# Altium schematic symbol library Converter_DCDC.SchLib: 947 symbols (part 11 of 12)
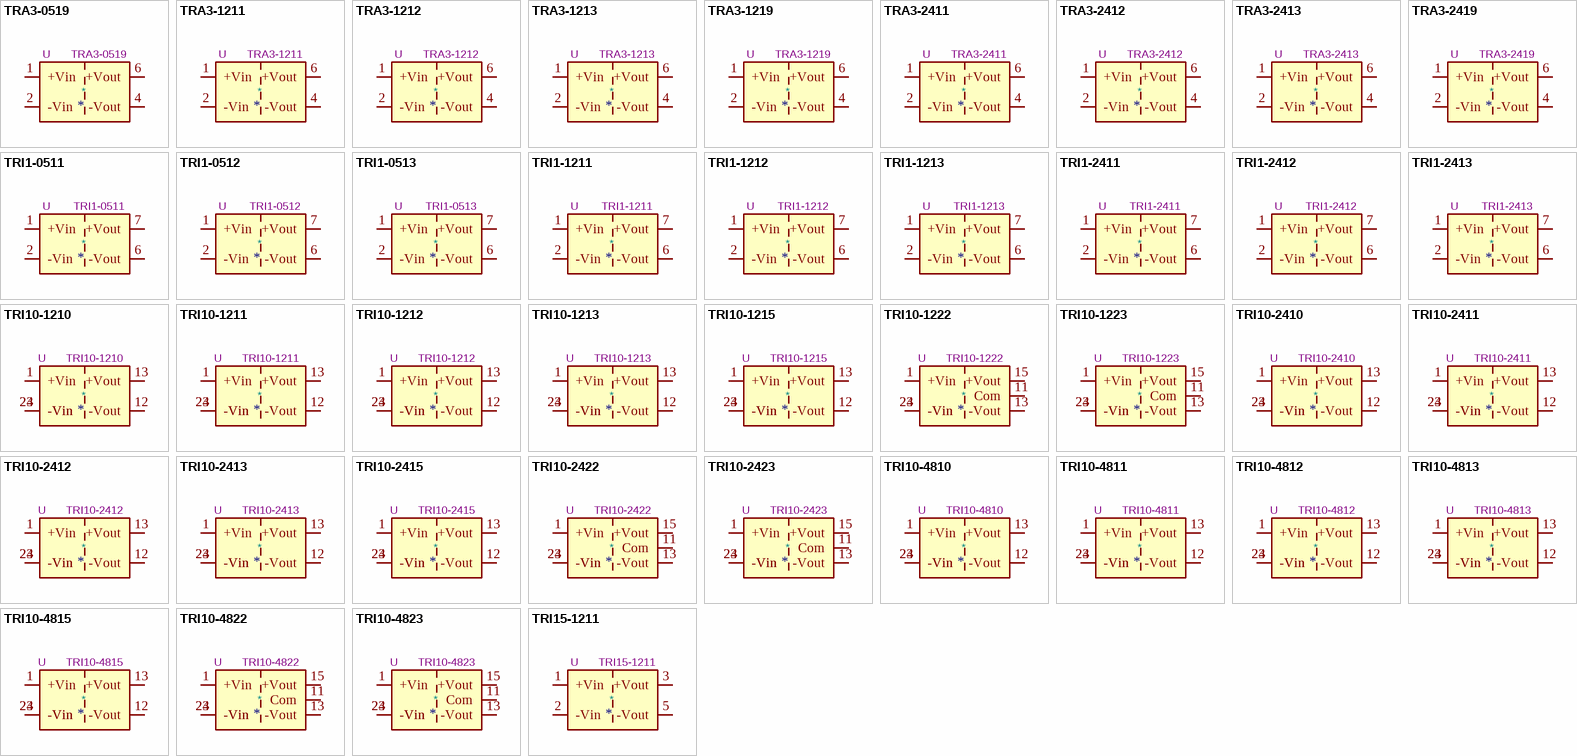
[diagram p33: symbols TRA3-0519 to TRI15-1211]

## TRI1-0512
designator *  value TRI1-0512  Reference: U
1W DC/DC converter unregulated, 4.5-5.5V input, 12V fixed output voltage, 84mA output, 3.0kVDC isolation, SIP-7; ki_keywords: Traco isolated isolation dc-dc converter not-regulated non-regulated single 1W; ki_fp_filters: Converter*DCDC*TRACO*TRI1*; Footprint: Converter_DCDC:Converter_DCDC_TRACO_TRI1-xxxx_THT; Datasheet: https://www.tracopower.com/products/tri1.pdf; Description_: 1W DC/DC converter unregulated, 4.5-5.5V input, 12V fixed output voltage, 84mA output, 3.0kVDC isolation, SIP-7
pins: 1 +Vin, 2 -Vin, 6 -Vout, 7 +Vout

## TRI1-0513
designator *  value TRI1-0513  Reference: U
1W DC/DC converter unregulated, 4.5-5.5V input, 15V fixed output voltage, 68mA output, 3.0kVDC isolation, SIP-7; ki_keywords: Traco isolated isolation dc-dc converter not-regulated non-regulated single 1W; ki_fp_filters: Converter*DCDC*TRACO*TRI1*; Footprint: Converter_DCDC:Converter_DCDC_TRACO_TRI1-xxxx_THT; Datasheet: https://www.tracopower.com/products/tri1.pdf; Description_: 1W DC/DC converter unregulated, 4.5-5.5V input, 15V fixed output voltage, 68mA output, 3.0kVDC isolation, SIP-7
pins: 1 +Vin, 2 -Vin, 6 -Vout, 7 +Vout

## TRI1-1211
designator *  value TRI1-1211  Reference: U
1W DC/DC converter unregulated, 10.8-13.2V input, 5V fixed output voltage, 200mA output, 3.0kVDC isolation, SIP-7; ki_keywords: Traco isolated isolation dc-dc converter not-regulated non-regulated single 1W; ki_fp_filters: Converter*DCDC*TRACO*TRI1*; Footprint: Converter_DCDC:Converter_DCDC_TRACO_TRI1-xxxx_THT; Datasheet: https://www.tracopower.com/products/tri1.pdf; Description_: 1W DC/DC converter unregulated, 10.8-13.2V input, 5V fixed output voltage, 200mA output, 3.0kVDC isolation, SIP-7
pins: 1 +Vin, 2 -Vin, 6 -Vout, 7 +Vout

## TRI1-1212
designator *  value TRI1-1212  Reference: U
1W DC/DC converter unregulated, 10.8-13.2V input, 12V fixed output voltage, 84mA output, 3.0kVDC isolation, SIP-7; ki_keywords: Traco isolated isolation dc-dc converter not-regulated non-regulated single 1W; ki_fp_filters: Converter*DCDC*TRACO*TRI1*; Footprint: Converter_DCDC:Converter_DCDC_TRACO_TRI1-xxxx_THT; Datasheet: https://www.tracopower.com/products/tri1.pdf; Description_: 1W DC/DC converter unregulated, 10.8-13.2V input, 12V fixed output voltage, 84mA output, 3.0kVDC isolation, SIP-7
pins: 1 +Vin, 2 -Vin, 6 -Vout, 7 +Vout

## TRI1-1213
designator *  value TRI1-1213  Reference: U
1W DC/DC converter unregulated, 10.8-13.2V input, 15V fixed output voltage, 68mA output, 3.0kVDC isolation, SIP-7; ki_keywords: Traco isolated isolation dc-dc converter not-regulated non-regulated single 1W; ki_fp_filters: Converter*DCDC*TRACO*TRI1*; Footprint: Converter_DCDC:Converter_DCDC_TRACO_TRI1-xxxx_THT; Datasheet: https://www.tracopower.com/products/tri1.pdf; Description_: 1W DC/DC converter unregulated, 10.8-13.2V input, 15V fixed output voltage, 68mA output, 3.0kVDC isolation, SIP-7
pins: 1 +Vin, 2 -Vin, 6 -Vout, 7 +Vout

## TRI1-2411
designator *  value TRI1-2411  Reference: U
1W DC/DC converter unregulated, 21.6-26.4V input, 5V fixed output voltage, 200mA output, 3.0kVDC isolation, SIP-7; ki_keywords: Traco isolated isolation dc-dc converter not-regulated non-regulated single 1W; ki_fp_filters: Converter*DCDC*TRACO*TRI1*; Footprint: Converter_DCDC:Converter_DCDC_TRACO_TRI1-xxxx_THT; Datasheet: https://www.tracopower.com/products/tri1.pdf; Description_: 1W DC/DC converter unregulated, 21.6-26.4V input, 5V fixed output voltage, 200mA output, 3.0kVDC isolation, SIP-7
pins: 1 +Vin, 2 -Vin, 6 -Vout, 7 +Vout

## TRI1-2412
designator *  value TRI1-2412  Reference: U
1W DC/DC converter unregulated, 21.6-26.4V input, 12V fixed output voltage, 84mA output, 3.0kVDC isolation, SIP-7; ki_keywords: Traco isolated isolation dc-dc converter not-regulated non-regulated single 1W; ki_fp_filters: Converter*DCDC*TRACO*TRI1*; Footprint: Converter_DCDC:Converter_DCDC_TRACO_TRI1-xxxx_THT; Datasheet: https://www.tracopower.com/products/tri1.pdf; Description_: 1W DC/DC converter unregulated, 21.6-26.4V input, 12V fixed output voltage, 84mA output, 3.0kVDC isolation, SIP-7
pins: 1 +Vin, 2 -Vin, 6 -Vout, 7 +Vout

## TRI1-2413
designator *  value TRI1-2413  Reference: U
1W DC/DC converter unregulated, 21.6-26.4V input, 15V fixed output voltage, 68mA output, 3.0kVDC isolation, SIP-7; ki_keywords: Traco isolated isolation dc-dc converter not-regulated non-regulated single 1W; ki_fp_filters: Converter*DCDC*TRACO*TRI1*; Footprint: Converter_DCDC:Converter_DCDC_TRACO_TRI1-xxxx_THT; Datasheet: https://www.tracopower.com/products/tri1.pdf; Description_: 1W DC/DC converter unregulated, 21.6-26.4V input, 15V fixed output voltage, 68mA output, 3.0kVDC isolation, SIP-7
pins: 1 +Vin, 2 -Vin, 6 -Vout, 7 +Vout

## TRI10-1210
designator *  value TRI10-1210  Reference: U
10W DC/DC industrial converter regulated, 9-18V input, 3.3V fixed output voltage, 2.7A output, 5.0kVAC isolation, DIP-24; ki_keywords: Traco isolated single; ki_fp_filters: Converter*DCDC*TRACO*TRI10*Single*THT*; Footprint: Converter_DCDC:Converter_DCDC_TRACO_TRI10_Single_THT; Datasheet: https://www.tracopower.com/products/tri10.pdf; Description_: 10W DC/DC industrial converter regulated, 9-18V input, 3.3V fixed output voltage, 2.7A output, 5.0kVAC isolation, DIP-24
pins: 1 +Vin, 12 -Vout, 13 +Vout, 23 -Vin, 24 -Vin

## TRI10-1211
designator *  value TRI10-1211  Reference: U
10W DC/DC industrial converter regulated, 9-18V input, 5.1V fixed output voltage, 2A output, 5.0kVAC isolation, DIP-24; ki_keywords: Traco isolated single; ki_fp_filters: Converter*DCDC*TRACO*TRI10*Single*THT*; Footprint: Converter_DCDC:Converter_DCDC_TRACO_TRI10_Single_THT; Datasheet: https://www.tracopower.com/products/tri10.pdf; Description_: 10W DC/DC industrial converter regulated, 9-18V input, 5.1V fixed output voltage, 2A output, 5.0kVAC isolation, DIP-24
pins: 1 +Vin, 12 -Vout, 13 +Vout, 23 -Vin, 24 -Vin

## TRI10-1212
designator *  value TRI10-1212  Reference: U
10W DC/DC industrial converter regulated, 9-18V input, 12V fixed output voltage, 833mA output, 5.0kVAC isolation, DIP-24; ki_keywords: Traco isolated single; ki_fp_filters: Converter*DCDC*TRACO*TRI10*Single*THT*; Footprint: Converter_DCDC:Converter_DCDC_TRACO_TRI10_Single_THT; Datasheet: https://www.tracopower.com/products/tri10.pdf; Description_: 10W DC/DC industrial converter regulated, 9-18V input, 12V fixed output voltage, 833mA output, 5.0kVAC isolation, DIP-24
pins: 1 +Vin, 12 -Vout, 13 +Vout, 23 -Vin, 24 -Vin

## TRI10-1213
designator *  value TRI10-1213  Reference: U
10W DC/DC industrial converter regulated, 9-18V input, 15V fixed output voltage, 666mA output, 5.0kVAC isolation, DIP-24; ki_keywords: Traco isolated single; ki_fp_filters: Converter*DCDC*TRACO*TRI10*Single*THT*; Footprint: Converter_DCDC:Converter_DCDC_TRACO_TRI10_Single_THT; Datasheet: https://www.tracopower.com/products/tri10.pdf; Description_: 10W DC/DC industrial converter regulated, 9-18V input, 15V fixed output voltage, 666mA output, 5.0kVAC isolation, DIP-24
pins: 1 +Vin, 12 -Vout, 13 +Vout, 23 -Vin, 24 -Vin

## TRI10-1215
designator *  value TRI10-1215  Reference: U
10W DC/DC industrial converter regulated, 9-18V input, 24V fixed output voltage, 416mA output, 5.0kVAC isolation, DIP-24; ki_keywords: Traco isolated single; ki_fp_filters: Converter*DCDC*TRACO*TRI10*Single*THT*; Footprint: Converter_DCDC:Converter_DCDC_TRACO_TRI10_Single_THT; Datasheet: https://www.tracopower.com/products/tri10.pdf; Description_: 10W DC/DC industrial converter regulated, 9-18V input, 24V fixed output voltage, 416mA output, 5.0kVAC isolation, DIP-24
pins: 1 +Vin, 12 -Vout, 13 +Vout, 23 -Vin, 24 -Vin

## TRI10-1222
designator *  value TRI10-1222  Reference: U
10W DC/DC industrial converter regulated, 9-18V input, ±12V fixed output voltage, 416mA each output, 5.0kVAC isolation, DIP-24; ki_keywords: Traco isolated dual; ki_fp_filters: Converter*DCDC*TRACO*TRI10*Dual*THT*; Footprint: Converter_DCDC:Converter_DCDC_TRACO_TRI10_Dual_THT; Datasheet: https://www.tracopower.com/products/tri10.pdf; Description_: 10W DC/DC industrial converter regulated, 9-18V input, ±12V fixed output voltage, 416mA each output, 5.0kVAC isolation, DIP-24
pins: 1 +Vin, 11 Com, 13 -Vout, 15 +Vout, 23 -Vin, 24 -Vin

## TRI10-1223
designator *  value TRI10-1223  Reference: U
10W DC/DC industrial converter regulated, 9-18V input, ±15V fixed output voltage, 333mA each output, 5.0kVAC isolation, DIP-24; ki_keywords: Traco isolated dual; ki_fp_filters: Converter*DCDC*TRACO*TRI10*Dual*THT*; Footprint: Converter_DCDC:Converter_DCDC_TRACO_TRI10_Dual_THT; Datasheet: https://www.tracopower.com/products/tri10.pdf; Description_: 10W DC/DC industrial converter regulated, 9-18V input, ±15V fixed output voltage, 333mA each output, 5.0kVAC isolation, DIP-24
pins: 1 +Vin, 11 Com, 13 -Vout, 15 +Vout, 23 -Vin, 24 -Vin

## TRI10-2410
designator *  value TRI10-2410  Reference: U
10W DC/DC industrial converter regulated, 18-36V input, 3.3V fixed output voltage, 2.7A output, 5.0kVAC isolation, DIP-24; ki_keywords: Traco isolated single; ki_fp_filters: Converter*DCDC*TRACO*TRI10*Single*THT*; Footprint: Converter_DCDC:Converter_DCDC_TRACO_TRI10_Single_THT; Datasheet: https://www.tracopower.com/products/tri10.pdf; Description_: 10W DC/DC industrial converter regulated, 18-36V input, 3.3V fixed output voltage, 2.7A output, 5.0kVAC isolation, DIP-24
pins: 1 +Vin, 12 -Vout, 13 +Vout, 23 -Vin, 24 -Vin

## TRI10-2411
designator *  value TRI10-2411  Reference: U
10W DC/DC industrial converter regulated, 18-36V input, 5.1V fixed output voltage, 2A output, 5.0kVAC isolation, DIP-24; ki_keywords: Traco isolated single; ki_fp_filters: Converter*DCDC*TRACO*TRI10*Single*THT*; Footprint: Converter_DCDC:Converter_DCDC_TRACO_TRI10_Single_THT; Datasheet: https://www.tracopower.com/products/tri10.pdf; Description_: 10W DC/DC industrial converter regulated, 18-36V input, 5.1V fixed output voltage, 2A output, 5.0kVAC isolation, DIP-24
pins: 1 +Vin, 12 -Vout, 13 +Vout, 23 -Vin, 24 -Vin

## TRI10-2412
designator *  value TRI10-2412  Reference: U
10W DC/DC industrial converter regulated, 18-36V input, 12V fixed output voltage, 833mA output, 5.0kVAC isolation, DIP-24; ki_keywords: Traco isolated single; ki_fp_filters: Converter*DCDC*TRACO*TRI10*Single*THT*; Footprint: Converter_DCDC:Converter_DCDC_TRACO_TRI10_Single_THT; Datasheet: https://www.tracopower.com/products/tri10.pdf; Description_: 10W DC/DC industrial converter regulated, 18-36V input, 12V fixed output voltage, 833mA output, 5.0kVAC isolation, DIP-24
pins: 1 +Vin, 12 -Vout, 13 +Vout, 23 -Vin, 24 -Vin

## TRI10-2413
designator *  value TRI10-2413  Reference: U
10W DC/DC industrial converter regulated, 18-36V input, 15V fixed output voltage, 666mA output, 5.0kVAC isolation, DIP-24; ki_keywords: Traco isolated single; ki_fp_filters: Converter*DCDC*TRACO*TRI10*Single*THT*; Footprint: Converter_DCDC:Converter_DCDC_TRACO_TRI10_Single_THT; Datasheet: https://www.tracopower.com/products/tri10.pdf; Description_: 10W DC/DC industrial converter regulated, 18-36V input, 15V fixed output voltage, 666mA output, 5.0kVAC isolation, DIP-24
pins: 1 +Vin, 12 -Vout, 13 +Vout, 23 -Vin, 24 -Vin

## TRI10-2415
designator *  value TRI10-2415  Reference: U
10W DC/DC industrial converter regulated, 18-36V input, 24V fixed output voltage, 416mA output, 5.0kVAC isolation, DIP-24; ki_keywords: Traco isolated single; ki_fp_filters: Converter*DCDC*TRACO*TRI10*Single*THT*; Footprint: Converter_DCDC:Converter_DCDC_TRACO_TRI10_Single_THT; Datasheet: https://www.tracopower.com/products/tri10.pdf; Description_: 10W DC/DC industrial converter regulated, 18-36V input, 24V fixed output voltage, 416mA output, 5.0kVAC isolation, DIP-24
pins: 1 +Vin, 12 -Vout, 13 +Vout, 23 -Vin, 24 -Vin

## TRI10-2422
designator *  value TRI10-2422  Reference: U
10W DC/DC industrial converter regulated, 18-36V input, ±12V fixed output voltage, 416mA each output, 5.0kVAC isolation, DIP-24; ki_keywords: Traco isolated dual; ki_fp_filters: Converter*DCDC*TRACO*TRI10*Dual*THT*; Footprint: Converter_DCDC:Converter_DCDC_TRACO_TRI10_Dual_THT; Datasheet: https://www.tracopower.com/products/tri10.pdf; Description_: 10W DC/DC industrial converter regulated, 18-36V input, ±12V fixed output voltage, 416mA each output, 5.0kVAC isolation, DIP-24
pins: 1 +Vin, 11 Com, 13 -Vout, 15 +Vout, 23 -Vin, 24 -Vin

## TRI10-2423
designator *  value TRI10-2423  Reference: U
10W DC/DC industrial converter regulated, 18-36V input, ±15V fixed output voltage, 333mA each output, 5.0kVAC isolation, DIP-24; ki_keywords: Traco isolated dual; ki_fp_filters: Converter*DCDC*TRACO*TRI10*Dual*THT*; Footprint: Converter_DCDC:Converter_DCDC_TRACO_TRI10_Dual_THT; Datasheet: https://www.tracopower.com/products/tri10.pdf; Description_: 10W DC/DC industrial converter regulated, 18-36V input, ±15V fixed output voltage, 333mA each output, 5.0kVAC isolation, DIP-24
pins: 1 +Vin, 11 Com, 13 -Vout, 15 +Vout, 23 -Vin, 24 -Vin

## TRI10-4810
designator *  value TRI10-4810  Reference: U
10W DC/DC industrial converter regulated, 36-75V input, 3.3V fixed output voltage, 2.7A output, 5.0kVAC isolation, DIP-24; ki_keywords: Traco isolated single; ki_fp_filters: Converter*DCDC*TRACO*TRI10*Single*THT*; Footprint: Converter_DCDC:Converter_DCDC_TRACO_TRI10_Single_THT; Datasheet: https://www.tracopower.com/products/tri10.pdf; Description_: 10W DC/DC industrial converter regulated, 36-75V input, 3.3V fixed output voltage, 2.7A output, 5.0kVAC isolation, DIP-24
pins: 1 +Vin, 12 -Vout, 13 +Vout, 23 -Vin, 24 -Vin

## TRI10-4811
designator *  value TRI10-4811  Reference: U
10W DC/DC industrial converter regulated, 36-75V input, 5.1V fixed output voltage, 2A output, 5.0kVAC isolation, DIP-24; ki_keywords: Traco isolated single; ki_fp_filters: Converter*DCDC*TRACO*TRI10*Single*THT*; Footprint: Converter_DCDC:Converter_DCDC_TRACO_TRI10_Single_THT; Datasheet: https://www.tracopower.com/products/tri10.pdf; Description_: 10W DC/DC industrial converter regulated, 36-75V input, 5.1V fixed output voltage, 2A output, 5.0kVAC isolation, DIP-24
pins: 1 +Vin, 12 -Vout, 13 +Vout, 23 -Vin, 24 -Vin

## TRI10-4812
designator *  value TRI10-4812  Reference: U
10W DC/DC industrial converter regulated, 36-75V input, 12V fixed output voltage, 833mA output, 5.0kVAC isolation, DIP-24; ki_keywords: Traco isolated single; ki_fp_filters: Converter*DCDC*TRACO*TRI10*Single*THT*; Footprint: Converter_DCDC:Converter_DCDC_TRACO_TRI10_Single_THT; Datasheet: https://www.tracopower.com/products/tri10.pdf; Description_: 10W DC/DC industrial converter regulated, 36-75V input, 12V fixed output voltage, 833mA output, 5.0kVAC isolation, DIP-24
pins: 1 +Vin, 12 -Vout, 13 +Vout, 23 -Vin, 24 -Vin

## TRI10-4813
designator *  value TRI10-4813  Reference: U
10W DC/DC industrial converter regulated, 36-75V input, 15V fixed output voltage, 666mA output, 5.0kVAC isolation, DIP-24; ki_keywords: Traco isolated single; ki_fp_filters: Converter*DCDC*TRACO*TRI10*Single*THT*; Footprint: Converter_DCDC:Converter_DCDC_TRACO_TRI10_Single_THT; Datasheet: https://www.tracopower.com/products/tri10.pdf; Description_: 10W DC/DC industrial converter regulated, 36-75V input, 15V fixed output voltage, 666mA output, 5.0kVAC isolation, DIP-24
pins: 1 +Vin, 12 -Vout, 13 +Vout, 23 -Vin, 24 -Vin

## TRI10-4815
designator *  value TRI10-4815  Reference: U
10W DC/DC industrial converter regulated, 36-75V input, 24V fixed output voltage, 416mA output, 5.0kVAC isolation, DIP-24; ki_keywords: Traco isolated single; ki_fp_filters: Converter*DCDC*TRACO*TRI10*Single*THT*; Footprint: Converter_DCDC:Converter_DCDC_TRACO_TRI10_Single_THT; Datasheet: https://www.tracopower.com/products/tri10.pdf; Description_: 10W DC/DC industrial converter regulated, 36-75V input, 24V fixed output voltage, 416mA output, 5.0kVAC isolation, DIP-24
pins: 1 +Vin, 12 -Vout, 13 +Vout, 23 -Vin, 24 -Vin

## TRI10-4822
designator *  value TRI10-4822  Reference: U
10W DC/DC industrial converter regulated, 36-75V input, ±12V fixed output voltage, 416mA each output, 5.0kVAC isolation, DIP-24; ki_keywords: Traco isolated dual; ki_fp_filters: Converter*DCDC*TRACO*TRI10*Dual*THT*; Footprint: Converter_DCDC:Converter_DCDC_TRACO_TRI10_Dual_THT; Datasheet: https://www.tracopower.com/products/tri10.pdf; Description_: 10W DC/DC industrial converter regulated, 36-75V input, ±12V fixed output voltage, 416mA each output, 5.0kVAC isolation, DIP-24
pins: 1 +Vin, 11 Com, 13 -Vout, 15 +Vout, 23 -Vin, 24 -Vin

## TRI10-4823
designator *  value TRI10-4823  Reference: U
10W DC/DC industrial converter regulated, 36-75V input, ±15V fixed output voltage, 333mA each output, 5.0kVAC isolation, DIP-24; ki_keywords: Traco isolated dual; ki_fp_filters: Converter*DCDC*TRACO*TRI10*Dual*THT*; Footprint: Converter_DCDC:Converter_DCDC_TRACO_TRI10_Dual_THT; Datasheet: https://www.tracopower.com/products/tri10.pdf; Description_: 10W DC/DC industrial converter regulated, 36-75V input, ±15V fixed output voltage, 333mA each output, 5.0kVAC isolation, DIP-24
pins: 1 +Vin, 11 Com, 13 -Vout, 15 +Vout, 23 -Vin, 24 -Vin

## TRI15-1211
designator *  value TRI15-1211  Reference: U
15W DC/DC converter regulated, 9-18V input, 5.1V fixed output voltage, 3A output, reinforced 4.2kVAC isolation, 2"x1"; ki_keywords: Traco isolated single; ki_fp_filters: Converter*DCDC*TRACO*THB10*xxxx*Single*; Footprint: Converter_DCDC:Converter_DCDC_TRACO_THB10-xxxx_Single_THT; Datasheet: https://www.tracopower.com/products/tri15.pdf; Description_: 15W DC/DC converter regulated, 9-18V input, 5.1V fixed output voltage, 3A output, reinforced 4.2kVAC isolation, 2"x1"
pins: 1 +Vin, 2 -Vin, 3 +Vout, 5 -Vout

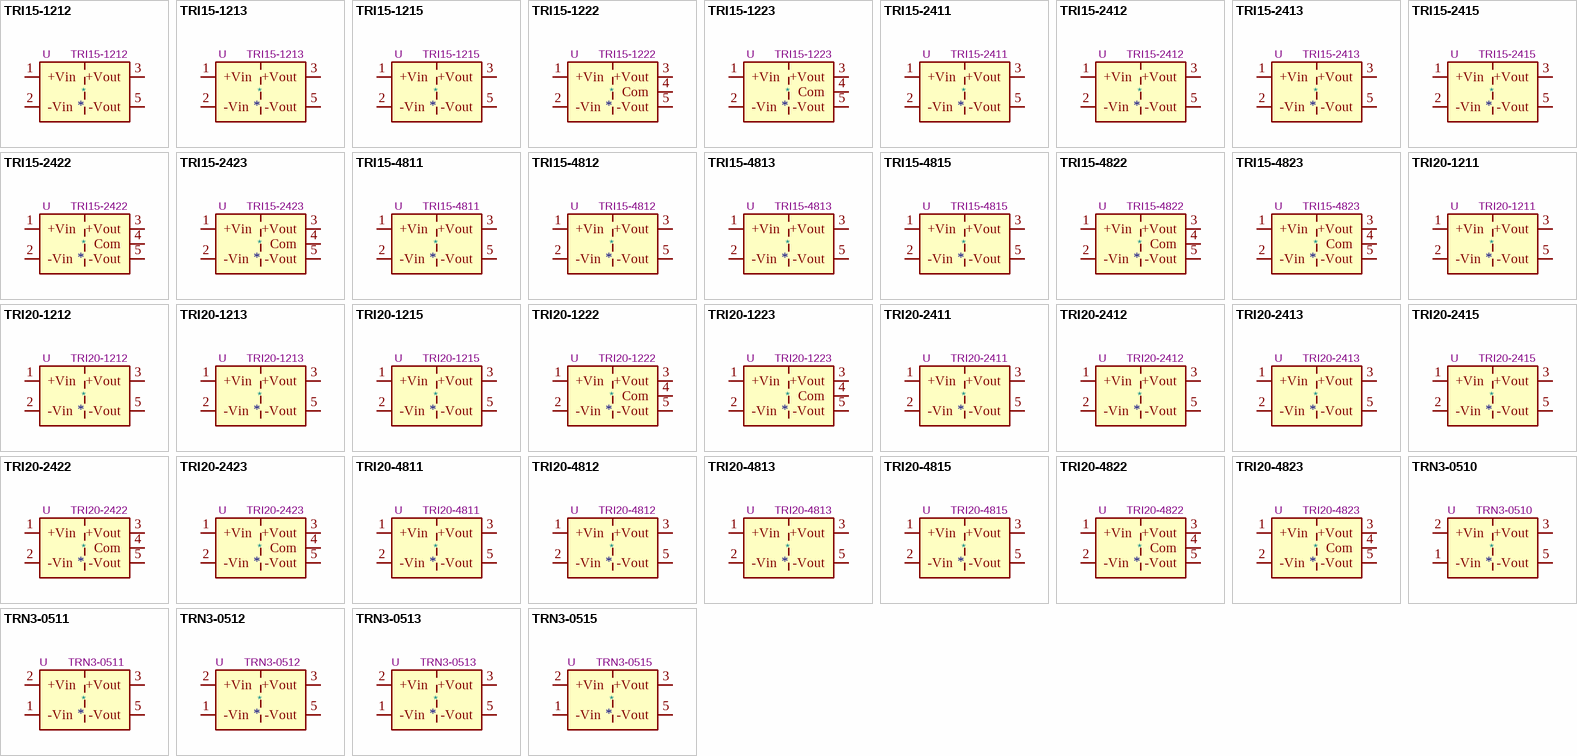
[diagram p22: symbols TRI15-1212 to TRN3-0515]

## TRI15-1212
designator *  value TRI15-1212  Reference: U
15W DC/DC converter regulated, 9-18V input, 12V fixed output voltage, 1.25A output, reinforced 4.2kVAC isolation, 2"x1"; ki_keywords: Traco isolated single; ki_fp_filters: Converter*DCDC*TRACO*THB10*xxxx*Single*; Footprint: Converter_DCDC:Converter_DCDC_TRACO_THB10-xxxx_Single_THT; Datasheet: https://www.tracopower.com/products/tri15.pdf; Description_: 15W DC/DC converter regulated, 9-18V input, 12V fixed output voltage, 1.25A output, reinforced 4.2kVAC isolation, 2"x1"
pins: 1 +Vin, 2 -Vin, 3 +Vout, 5 -Vout

## TRI15-1213
designator *  value TRI15-1213  Reference: U
15W DC/DC converter regulated, 9-18V input, 15V fixed output voltage, 1A output, reinforced 4.2kVAC isolation, 2"x1"; ki_keywords: Traco isolated single; ki_fp_filters: Converter*DCDC*TRACO*THB10*xxxx*Single*; Footprint: Converter_DCDC:Converter_DCDC_TRACO_THB10-xxxx_Single_THT; Datasheet: https://www.tracopower.com/products/tri15.pdf; Description_: 15W DC/DC converter regulated, 9-18V input, 15V fixed output voltage, 1A output, reinforced 4.2kVAC isolation, 2"x1"
pins: 1 +Vin, 2 -Vin, 3 +Vout, 5 -Vout

## TRI15-1215
designator *  value TRI15-1215  Reference: U
15W DC/DC converter regulated, 9-18V input, 24V fixed output voltage, 625mA output, reinforced 4.2kVAC isolation, 2"x1"; ki_keywords: Traco isolated single; ki_fp_filters: Converter*DCDC*TRACO*THB10*xxxx*Single*; Footprint: Converter_DCDC:Converter_DCDC_TRACO_THB10-xxxx_Single_THT; Datasheet: https://www.tracopower.com/products/tri15.pdf; Description_: 15W DC/DC converter regulated, 9-18V input, 24V fixed output voltage, 625mA output, reinforced 4.2kVAC isolation, 2"x1"
pins: 1 +Vin, 2 -Vin, 3 +Vout, 5 -Vout

## TRI15-1222
designator *  value TRI15-1222  Reference: U
15W DC/DC converter regulated, 9-18V input, ±12V fixed output voltage, 625mA each output, reinforced 4.2kVAC isolation, 2"x1"; ki_keywords: Traco isolated dual; ki_fp_filters: Converter*DCDC*TRACO*THB10*xxxx*Dual*; Footprint: Converter_DCDC:Converter_DCDC_TRACO_THB10-xxxx_Dual_THT; Datasheet: https://www.tracopower.com/products/tri15.pdf; Description_: 15W DC/DC converter regulated, 9-18V input, ±12V fixed output voltage, 625mA each output, reinforced 4.2kVAC isolation, 2"x1"
pins: 1 +Vin, 2 -Vin, 3 +Vout, 4 Com, 5 -Vout

## TRI15-1223
designator *  value TRI15-1223  Reference: U
15W DC/DC converter regulated, 9-18V input, ±15V fixed output voltage, 500mA each output, reinforced 4.2kVAC isolation, 2"x1"; ki_keywords: Traco isolated dual; ki_fp_filters: Converter*DCDC*TRACO*THB10*xxxx*Dual*; Footprint: Converter_DCDC:Converter_DCDC_TRACO_THB10-xxxx_Dual_THT; Datasheet: https://www.tracopower.com/products/tri15.pdf; Description_: 15W DC/DC converter regulated, 9-18V input, ±15V fixed output voltage, 500mA each output, reinforced 4.2kVAC isolation, 2"x1"
pins: 1 +Vin, 2 -Vin, 3 +Vout, 4 Com, 5 -Vout

## TRI15-2411
designator *  value TRI15-2411  Reference: U
15W DC/DC converter regulated, 18-36V input, 5.1V fixed output voltage, 3A output, reinforced 4.2kVAC isolation, 2"x1"; ki_keywords: Traco isolated single; ki_fp_filters: Converter*DCDC*TRACO*THB10*xxxx*Single*; Footprint: Converter_DCDC:Converter_DCDC_TRACO_THB10-xxxx_Single_THT; Datasheet: https://www.tracopower.com/products/tri15.pdf; Description_: 15W DC/DC converter regulated, 18-36V input, 5.1V fixed output voltage, 3A output, reinforced 4.2kVAC isolation, 2"x1"
pins: 1 +Vin, 2 -Vin, 3 +Vout, 5 -Vout

## TRI15-2412
designator *  value TRI15-2412  Reference: U
15W DC/DC converter regulated, 18-36V input, 12V fixed output voltage, 1.25A output, reinforced 4.2kVAC isolation, 2"x1"; ki_keywords: Traco isolated single; ki_fp_filters: Converter*DCDC*TRACO*THB10*xxxx*Single*; Footprint: Converter_DCDC:Converter_DCDC_TRACO_THB10-xxxx_Single_THT; Datasheet: https://www.tracopower.com/products/tri15.pdf; Description_: 15W DC/DC converter regulated, 18-36V input, 12V fixed output voltage, 1.25A output, reinforced 4.2kVAC isolation, 2"x1"
pins: 1 +Vin, 2 -Vin, 3 +Vout, 5 -Vout

## TRI15-2413
designator *  value TRI15-2413  Reference: U
15W DC/DC converter regulated, 18-36V input, 15V fixed output voltage, 1A output, reinforced 4.2kVAC isolation, 2"x1"; ki_keywords: Traco isolated single; ki_fp_filters: Converter*DCDC*TRACO*THB10*xxxx*Single*; Footprint: Converter_DCDC:Converter_DCDC_TRACO_THB10-xxxx_Single_THT; Datasheet: https://www.tracopower.com/products/tri15.pdf; Description_: 15W DC/DC converter regulated, 18-36V input, 15V fixed output voltage, 1A output, reinforced 4.2kVAC isolation, 2"x1"
pins: 1 +Vin, 2 -Vin, 3 +Vout, 5 -Vout

## TRI15-2415
designator *  value TRI15-2415  Reference: U
15W DC/DC converter regulated, 18-36V input, 24V fixed output voltage, 625mA output, reinforced 4.2kVAC isolation, 2"x1"; ki_keywords: Traco isolated single; ki_fp_filters: Converter*DCDC*TRACO*THB10*xxxx*Single*; Footprint: Converter_DCDC:Converter_DCDC_TRACO_THB10-xxxx_Single_THT; Datasheet: https://www.tracopower.com/products/tri15.pdf; Description_: 15W DC/DC converter regulated, 18-36V input, 24V fixed output voltage, 625mA output, reinforced 4.2kVAC isolation, 2"x1"
pins: 1 +Vin, 2 -Vin, 3 +Vout, 5 -Vout

## TRI15-2422
designator *  value TRI15-2422  Reference: U
15W DC/DC converter regulated, 18-36V input, ±12V fixed output voltage, 625mA each output, reinforced 4.2kVAC isolation, 2"x1"; ki_keywords: Traco isolated dual; ki_fp_filters: Converter*DCDC*TRACO*THB10*xxxx*Dual*; Footprint: Converter_DCDC:Converter_DCDC_TRACO_THB10-xxxx_Dual_THT; Datasheet: https://www.tracopower.com/products/tri15.pdf; Description_: 15W DC/DC converter regulated, 18-36V input, ±12V fixed output voltage, 625mA each output, reinforced 4.2kVAC isolation, 2"x1"
pins: 1 +Vin, 2 -Vin, 3 +Vout, 4 Com, 5 -Vout

## TRI15-2423
designator *  value TRI15-2423  Reference: U
15W DC/DC converter regulated, 18-36V input, ±15V fixed output voltage, 500mA each output, reinforced 4.2kVAC isolation, 2"x1"; ki_keywords: Traco isolated dual; ki_fp_filters: Converter*DCDC*TRACO*THB10*xxxx*Dual*; Footprint: Converter_DCDC:Converter_DCDC_TRACO_THB10-xxxx_Dual_THT; Datasheet: https://www.tracopower.com/products/tri15.pdf; Description_: 15W DC/DC converter regulated, 18-36V input, ±15V fixed output voltage, 500mA each output, reinforced 4.2kVAC isolation, 2"x1"
pins: 1 +Vin, 2 -Vin, 3 +Vout, 4 Com, 5 -Vout

## TRI15-4811
designator *  value TRI15-4811  Reference: U
15W DC/DC converter regulated, 36-75V input, 5.1V fixed output voltage, 3A output, reinforced 4.2kVAC isolation, 2"x1"; ki_keywords: Traco isolated single; ki_fp_filters: Converter*DCDC*TRACO*THB10*xxxx*Single*; Footprint: Converter_DCDC:Converter_DCDC_TRACO_THB10-xxxx_Single_THT; Datasheet: https://www.tracopower.com/products/tri15.pdf; Description_: 15W DC/DC converter regulated, 36-75V input, 5.1V fixed output voltage, 3A output, reinforced 4.2kVAC isolation, 2"x1"
pins: 1 +Vin, 2 -Vin, 3 +Vout, 5 -Vout

## TRI15-4812
designator *  value TRI15-4812  Reference: U
15W DC/DC converter regulated, 36-75V input, 12V fixed output voltage, 1.25A output, reinforced 4.2kVAC isolation, 2"x1"; ki_keywords: Traco isolated single; ki_fp_filters: Converter*DCDC*TRACO*THB10*xxxx*Single*; Footprint: Converter_DCDC:Converter_DCDC_TRACO_THB10-xxxx_Single_THT; Datasheet: https://www.tracopower.com/products/tri15.pdf; Description_: 15W DC/DC converter regulated, 36-75V input, 12V fixed output voltage, 1.25A output, reinforced 4.2kVAC isolation, 2"x1"
pins: 1 +Vin, 2 -Vin, 3 +Vout, 5 -Vout

## TRI15-4813
designator *  value TRI15-4813  Reference: U
15W DC/DC converter regulated, 36-75V input, 15V fixed output voltage, 1A output, reinforced 4.2kVAC isolation, 2"x1"; ki_keywords: Traco isolated single; ki_fp_filters: Converter*DCDC*TRACO*THB10*xxxx*Single*; Footprint: Converter_DCDC:Converter_DCDC_TRACO_THB10-xxxx_Single_THT; Datasheet: https://www.tracopower.com/products/tri15.pdf; Description_: 15W DC/DC converter regulated, 36-75V input, 15V fixed output voltage, 1A output, reinforced 4.2kVAC isolation, 2"x1"
pins: 1 +Vin, 2 -Vin, 3 +Vout, 5 -Vout

## TRI15-4815
designator *  value TRI15-4815  Reference: U
15W DC/DC converter regulated, 36-75V input, 24V fixed output voltage, 625mA output, reinforced 4.2kVAC isolation, 2"x1"; ki_keywords: Traco isolated single; ki_fp_filters: Converter*DCDC*TRACO*THB10*xxxx*Single*; Footprint: Converter_DCDC:Converter_DCDC_TRACO_THB10-xxxx_Single_THT; Datasheet: https://www.tracopower.com/products/tri15.pdf; Description_: 15W DC/DC converter regulated, 36-75V input, 24V fixed output voltage, 625mA output, reinforced 4.2kVAC isolation, 2"x1"
pins: 1 +Vin, 2 -Vin, 3 +Vout, 5 -Vout

## TRI15-4822
designator *  value TRI15-4822  Reference: U
15W DC/DC converter regulated, 36-75V input, ±12V fixed output voltage, 625mA each output, reinforced 4.2kVAC isolation, 2"x1"; ki_keywords: Traco isolated dual; ki_fp_filters: Converter*DCDC*TRACO*THB10*xxxx*Dual*; Footprint: Converter_DCDC:Converter_DCDC_TRACO_THB10-xxxx_Dual_THT; Datasheet: https://www.tracopower.com/products/tri15.pdf; Description_: 15W DC/DC converter regulated, 36-75V input, ±12V fixed output voltage, 625mA each output, reinforced 4.2kVAC isolation, 2"x1"
pins: 1 +Vin, 2 -Vin, 3 +Vout, 4 Com, 5 -Vout

## TRI15-4823
designator *  value TRI15-4823  Reference: U
15W DC/DC converter regulated, 36-75V input, ±15V fixed output voltage, 500mA each output, reinforced 4.2kVAC isolation, 2"x1"; ki_keywords: Traco isolated dual; ki_fp_filters: Converter*DCDC*TRACO*THB10*xxxx*Dual*; Footprint: Converter_DCDC:Converter_DCDC_TRACO_THB10-xxxx_Dual_THT; Datasheet: https://www.tracopower.com/products/tri15.pdf; Description_: 15W DC/DC converter regulated, 36-75V input, ±15V fixed output voltage, 500mA each output, reinforced 4.2kVAC isolation, 2"x1"
pins: 1 +Vin, 2 -Vin, 3 +Vout, 4 Com, 5 -Vout

## TRI20-1211
designator *  value TRI20-1211  Reference: U
20W DC/DC converter regulated, 9-18V input, 5.1V fixed output voltage, 4A output, reinforced 4.2kVAC isolation, 2"x1"; ki_keywords: Traco isolated single; ki_fp_filters: Converter*DCDC*TRACO*THB10*xxxx*Single*; Footprint: Converter_DCDC:Converter_DCDC_TRACO_THB10-xxxx_Single_THT; Datasheet: https://www.tracopower.com/products/tri20.pdf; Description_: 20W DC/DC converter regulated, 9-18V input, 5.1V fixed output voltage, 4A output, reinforced 4.2kVAC isolation, 2"x1"
pins: 1 +Vin, 2 -Vin, 3 +Vout, 5 -Vout

## TRI20-1212
designator *  value TRI20-1212  Reference: U
20W DC/DC converter regulated, 9-18V input, 12V fixed output voltage, 1.67A output, reinforced 4.2kVAC isolation, 2"x1"; ki_keywords: Traco isolated single; ki_fp_filters: Converter*DCDC*TRACO*THB10*xxxx*Single*; Footprint: Converter_DCDC:Converter_DCDC_TRACO_THB10-xxxx_Single_THT; Datasheet: https://www.tracopower.com/products/tri20.pdf; Description_: 20W DC/DC converter regulated, 9-18V input, 12V fixed output voltage, 1.67A output, reinforced 4.2kVAC isolation, 2"x1"
pins: 1 +Vin, 2 -Vin, 3 +Vout, 5 -Vout

## TRI20-1213
designator *  value TRI20-1213  Reference: U
20W DC/DC converter regulated, 9-18V input, 15V fixed output voltage, 1.333A output, reinforced 4.2kVAC isolation, 2"x1"; ki_keywords: Traco isolated single; ki_fp_filters: Converter*DCDC*TRACO*THB10*xxxx*Single*; Footprint: Converter_DCDC:Converter_DCDC_TRACO_THB10-xxxx_Single_THT; Datasheet: https://www.tracopower.com/products/tri20.pdf; Description_: 20W DC/DC converter regulated, 9-18V input, 15V fixed output voltage, 1.333A output, reinforced 4.2kVAC isolation, 2"x1"
pins: 1 +Vin, 2 -Vin, 3 +Vout, 5 -Vout

## TRI20-1215
designator *  value TRI20-1215  Reference: U
20W DC/DC converter regulated, 9-18V input, 24V fixed output voltage, 840mA output, reinforced 4.2kVAC isolation, 2"x1"; ki_keywords: Traco isolated single; ki_fp_filters: Converter*DCDC*TRACO*THB10*xxxx*Single*; Footprint: Converter_DCDC:Converter_DCDC_TRACO_THB10-xxxx_Single_THT; Datasheet: https://www.tracopower.com/products/tri20.pdf; Description_: 20W DC/DC converter regulated, 9-18V input, 24V fixed output voltage, 840mA output, reinforced 4.2kVAC isolation, 2"x1"
pins: 1 +Vin, 2 -Vin, 3 +Vout, 5 -Vout

## TRI20-1222
designator *  value TRI20-1222  Reference: U
20W DC/DC converter regulated, 9-18V input, ±12V fixed output voltage, 840mA each output, reinforced 4.2kVAC isolation, 2"x1"; ki_keywords: Traco isolated dual; ki_fp_filters: Converter*DCDC*TRACO*THB10*xxxx*Dual*; Footprint: Converter_DCDC:Converter_DCDC_TRACO_THB10-xxxx_Dual_THT; Datasheet: https://www.tracopower.com/products/tri20.pdf; Description_: 20W DC/DC converter regulated, 9-18V input, ±12V fixed output voltage, 840mA each output, reinforced 4.2kVAC isolation, 2"x1"
pins: 1 +Vin, 2 -Vin, 3 +Vout, 4 Com, 5 -Vout

## TRI20-1223
designator *  value TRI20-1223  Reference: U
20W DC/DC converter regulated, 9-18V input, ±15V fixed output voltage, 670mA each output, reinforced 4.2kVAC isolation, 2"x1"; ki_keywords: Traco isolated dual; ki_fp_filters: Converter*DCDC*TRACO*THB10*xxxx*Dual*; Footprint: Converter_DCDC:Converter_DCDC_TRACO_THB10-xxxx_Dual_THT; Datasheet: https://www.tracopower.com/products/tri20.pdf; Description_: 20W DC/DC converter regulated, 9-18V input, ±15V fixed output voltage, 670mA each output, reinforced 4.2kVAC isolation, 2"x1"
pins: 1 +Vin, 2 -Vin, 3 +Vout, 4 Com, 5 -Vout

## TRI20-2411
designator *  value TRI20-2411  Reference: U
20W DC/DC converter regulated, 18-36V input, 5.1V fixed output voltage, 4A output, reinforced 4.2kVAC isolation, 2"x1"; ki_keywords: Traco isolated single; ki_fp_filters: Converter*DCDC*TRACO*THB10*xxxx*Single*; Footprint: Converter_DCDC:Converter_DCDC_TRACO_THB10-xxxx_Single_THT; Datasheet: https://www.tracopower.com/products/tri20.pdf; Description_: 20W DC/DC converter regulated, 18-36V input, 5.1V fixed output voltage, 4A output, reinforced 4.2kVAC isolation, 2"x1"
pins: 1 +Vin, 2 -Vin, 3 +Vout, 5 -Vout

## TRI20-2412
designator *  value TRI20-2412  Reference: U
20W DC/DC converter regulated, 18-36V input, 12V fixed output voltage, 1.67A output, reinforced 4.2kVAC isolation, 2"x1"; ki_keywords: Traco isolated single; ki_fp_filters: Converter*DCDC*TRACO*THB10*xxxx*Single*; Footprint: Converter_DCDC:Converter_DCDC_TRACO_THB10-xxxx_Single_THT; Datasheet: https://www.tracopower.com/products/tri20.pdf; Description_: 20W DC/DC converter regulated, 18-36V input, 12V fixed output voltage, 1.67A output, reinforced 4.2kVAC isolation, 2"x1"
pins: 1 +Vin, 2 -Vin, 3 +Vout, 5 -Vout

## TRI20-2413
designator *  value TRI20-2413  Reference: U
20W DC/DC converter regulated, 18-36V input, 15V fixed output voltage, 1.333A output, reinforced 4.2kVAC isolation, 2"x1"; ki_keywords: Traco isolated single; ki_fp_filters: Converter*DCDC*TRACO*THB10*xxxx*Single*; Footprint: Converter_DCDC:Converter_DCDC_TRACO_THB10-xxxx_Single_THT; Datasheet: https://www.tracopower.com/products/tri20.pdf; Description_: 20W DC/DC converter regulated, 18-36V input, 15V fixed output voltage, 1.333A output, reinforced 4.2kVAC isolation, 2"x1"
pins: 1 +Vin, 2 -Vin, 3 +Vout, 5 -Vout

## TRI20-2415
designator *  value TRI20-2415  Reference: U
20W DC/DC converter regulated, 18-36V input, 24V fixed output voltage, 840mA output, reinforced 4.2kVAC isolation, 2"x1"; ki_keywords: Traco isolated single; ki_fp_filters: Converter*DCDC*TRACO*THB10*xxxx*Single*; Footprint: Converter_DCDC:Converter_DCDC_TRACO_THB10-xxxx_Single_THT; Datasheet: https://www.tracopower.com/products/tri20.pdf; Description_: 20W DC/DC converter regulated, 18-36V input, 24V fixed output voltage, 840mA output, reinforced 4.2kVAC isolation, 2"x1"
pins: 1 +Vin, 2 -Vin, 3 +Vout, 5 -Vout

## TRI20-2422
designator *  value TRI20-2422  Reference: U
20W DC/DC converter regulated, 18-36V input, ±12V fixed output voltage, 840mA each output, reinforced 4.2kVAC isolation, 2"x1"; ki_keywords: Traco isolated dual; ki_fp_filters: Converter*DCDC*TRACO*THB10*xxxx*Dual*; Footprint: Converter_DCDC:Converter_DCDC_TRACO_THB10-xxxx_Dual_THT; Datasheet: https://www.tracopower.com/products/tri20.pdf; Description_: 20W DC/DC converter regulated, 18-36V input, ±12V fixed output voltage, 840mA each output, reinforced 4.2kVAC isolation, 2"x1"
pins: 1 +Vin, 2 -Vin, 3 +Vout, 4 Com, 5 -Vout

## TRI20-2423
designator *  value TRI20-2423  Reference: U
20W DC/DC converter regulated, 18-36V input, ±15V fixed output voltage, 670mA each output, reinforced 4.2kVAC isolation, 2"x1"; ki_keywords: Traco isolated dual; ki_fp_filters: Converter*DCDC*TRACO*THB10*xxxx*Dual*; Footprint: Converter_DCDC:Converter_DCDC_TRACO_THB10-xxxx_Dual_THT; Datasheet: https://www.tracopower.com/products/tri20.pdf; Description_: 20W DC/DC converter regulated, 18-36V input, ±15V fixed output voltage, 670mA each output, reinforced 4.2kVAC isolation, 2"x1"
pins: 1 +Vin, 2 -Vin, 3 +Vout, 4 Com, 5 -Vout

## TRI20-4811
designator *  value TRI20-4811  Reference: U
20W DC/DC converter regulated, 36-75V input, 5.1V fixed output voltage, 4A output, reinforced 4.2kVAC isolation, 2"x1"; ki_keywords: Traco isolated single; ki_fp_filters: Converter*DCDC*TRACO*THB10*xxxx*Single*; Footprint: Converter_DCDC:Converter_DCDC_TRACO_THB10-xxxx_Single_THT; Datasheet: https://www.tracopower.com/products/tri20.pdf; Description_: 20W DC/DC converter regulated, 36-75V input, 5.1V fixed output voltage, 4A output, reinforced 4.2kVAC isolation, 2"x1"
pins: 1 +Vin, 2 -Vin, 3 +Vout, 5 -Vout

## TRI20-4812
designator *  value TRI20-4812  Reference: U
20W DC/DC converter regulated, 36-75V input, 12V fixed output voltage, 1.67A output, reinforced 4.2kVAC isolation, 2"x1"; ki_keywords: Traco isolated single; ki_fp_filters: Converter*DCDC*TRACO*THB10*xxxx*Single*; Footprint: Converter_DCDC:Converter_DCDC_TRACO_THB10-xxxx_Single_THT; Datasheet: https://www.tracopower.com/products/tri20.pdf; Description_: 20W DC/DC converter regulated, 36-75V input, 12V fixed output voltage, 1.67A output, reinforced 4.2kVAC isolation, 2"x1"
pins: 1 +Vin, 2 -Vin, 3 +Vout, 5 -Vout

## TRI20-4813
designator *  value TRI20-4813  Reference: U
20W DC/DC converter regulated, 36-75V input, 15V fixed output voltage, 1.333A output, reinforced 4.2kVAC isolation, 2"x1"; ki_keywords: Traco isolated single; ki_fp_filters: Converter*DCDC*TRACO*THB10*xxxx*Single*; Footprint: Converter_DCDC:Converter_DCDC_TRACO_THB10-xxxx_Single_THT; Datasheet: https://www.tracopower.com/products/tri20.pdf; Description_: 20W DC/DC converter regulated, 36-75V input, 15V fixed output voltage, 1.333A output, reinforced 4.2kVAC isolation, 2"x1"
pins: 1 +Vin, 2 -Vin, 3 +Vout, 5 -Vout

## TRI20-4815
designator *  value TRI20-4815  Reference: U
20W DC/DC converter regulated, 36-75V input, 24V fixed output voltage, 840mA output, reinforced 4.2kVAC isolation, 2"x1"; ki_keywords: Traco isolated single; ki_fp_filters: Converter*DCDC*TRACO*THB10*xxxx*Single*; Footprint: Converter_DCDC:Converter_DCDC_TRACO_THB10-xxxx_Single_THT; Datasheet: https://www.tracopower.com/products/tri20.pdf; Description_: 20W DC/DC converter regulated, 36-75V input, 24V fixed output voltage, 840mA output, reinforced 4.2kVAC isolation, 2"x1"
pins: 1 +Vin, 2 -Vin, 3 +Vout, 5 -Vout

## TRI20-4822
designator *  value TRI20-4822  Reference: U
20W DC/DC converter regulated, 36-75V input, ±12V fixed output voltage, 840mA each output, reinforced 4.2kVAC isolation, 2"x1"; ki_keywords: Traco isolated dual; ki_fp_filters: Converter*DCDC*TRACO*THB10*xxxx*Dual*; Footprint: Converter_DCDC:Converter_DCDC_TRACO_THB10-xxxx_Dual_THT; Datasheet: https://www.tracopower.com/products/tri20.pdf; Description_: 20W DC/DC converter regulated, 36-75V input, ±12V fixed output voltage, 840mA each output, reinforced 4.2kVAC isolation, 2"x1"
pins: 1 +Vin, 2 -Vin, 3 +Vout, 4 Com, 5 -Vout

## TRI20-4823
designator *  value TRI20-4823  Reference: U
20W DC/DC converter regulated, 36-75V input, ±15V fixed output voltage, 670mA each output, reinforced 4.2kVAC isolation, 2"x1"; ki_keywords: Traco isolated dual; ki_fp_filters: Converter*DCDC*TRACO*THB10*xxxx*Dual*; Footprint: Converter_DCDC:Converter_DCDC_TRACO_THB10-xxxx_Dual_THT; Datasheet: https://www.tracopower.com/products/tri20.pdf; Description_: 20W DC/DC converter regulated, 36-75V input, ±15V fixed output voltage, 670mA each output, reinforced 4.2kVAC isolation, 2"x1"
pins: 1 +Vin, 2 -Vin, 3 +Vout, 4 Com, 5 -Vout

## TRN3-0510
designator *  value TRN3-0510  Reference: U
3W DC/DC converter regulated, 4.5-13.2V input, 3.3V fixed output voltage, 700mA output, 1.6kVDC isolation, SIP-5; ki_keywords: Traco isolated single; ki_fp_filters: Converter*DCDC*TRACO*TRN3*xx1x*Single*THT*; Footprint: Converter_DCDC:Converter_DCDC_TRACO_TRN3-xx1x_Single_THT; Datasheet: https://www.tracopower.com/products/trn3.pdf; Description_: 3W DC/DC converter regulated, 4.5-13.2V input, 3.3V fixed output voltage, 700mA output, 1.6kVDC isolation, SIP-5
pins: 1 -Vin, 2 +Vin, 3 +Vout, 5 -Vout

## TRN3-0511
designator *  value TRN3-0511  Reference: U
3W DC/DC converter regulated, 4.5-13.2V input, 5V fixed output voltage, 600mA output, 1.6kVDC isolation, SIP-5; ki_keywords: Traco isolated single; ki_fp_filters: Converter*DCDC*TRACO*TRN3*xx1x*Single*THT*; Footprint: Converter_DCDC:Converter_DCDC_TRACO_TRN3-xx1x_Single_THT; Datasheet: https://www.tracopower.com/products/trn3.pdf; Description_: 3W DC/DC converter regulated, 4.5-13.2V input, 5V fixed output voltage, 600mA output, 1.6kVDC isolation, SIP-5
pins: 1 -Vin, 2 +Vin, 3 +Vout, 5 -Vout

## TRN3-0512
designator *  value TRN3-0512  Reference: U
3W DC/DC converter regulated, 4.5-13.2V input, 12V fixed output voltage, 250mA output, 1.6kVDC isolation, SIP-5; ki_keywords: Traco isolated single; ki_fp_filters: Converter*DCDC*TRACO*TRN3*xx1x*Single*THT*; Footprint: Converter_DCDC:Converter_DCDC_TRACO_TRN3-xx1x_Single_THT; Datasheet: https://www.tracopower.com/products/trn3.pdf; Description_: 3W DC/DC converter regulated, 4.5-13.2V input, 12V fixed output voltage, 250mA output, 1.6kVDC isolation, SIP-5
pins: 1 -Vin, 2 +Vin, 3 +Vout, 5 -Vout

## TRN3-0513
designator *  value TRN3-0513  Reference: U
3W DC/DC converter regulated, 4.5-13.2V input, 15V fixed output voltage, 200mA output, 1.6kVDC isolation, SIP-5; ki_keywords: Traco isolated single; ki_fp_filters: Converter*DCDC*TRACO*TRN3*xx1x*Single*THT*; Footprint: Converter_DCDC:Converter_DCDC_TRACO_TRN3-xx1x_Single_THT; Datasheet: https://www.tracopower.com/products/trn3.pdf; Description_: 3W DC/DC converter regulated, 4.5-13.2V input, 15V fixed output voltage, 200mA output, 1.6kVDC isolation, SIP-5
pins: 1 -Vin, 2 +Vin, 3 +Vout, 5 -Vout

## TRN3-0515
designator *  value TRN3-0515  Reference: U
3W DC/DC converter regulated, 4.5-13.2V input, 24V fixed output voltage, 125mA output, 1.6kVDC isolation, SIP-5; ki_keywords: Traco isolated single; ki_fp_filters: Converter*DCDC*TRACO*TRN3*xx1x*Single*THT*; Footprint: Converter_DCDC:Converter_DCDC_TRACO_TRN3-xx1x_Single_THT; Datasheet: https://www.tracopower.com/products/trn3.pdf; Description_: 3W DC/DC converter regulated, 4.5-13.2V input, 24V fixed output voltage, 125mA output, 1.6kVDC isolation, SIP-5
pins: 1 -Vin, 2 +Vin, 3 +Vout, 5 -Vout

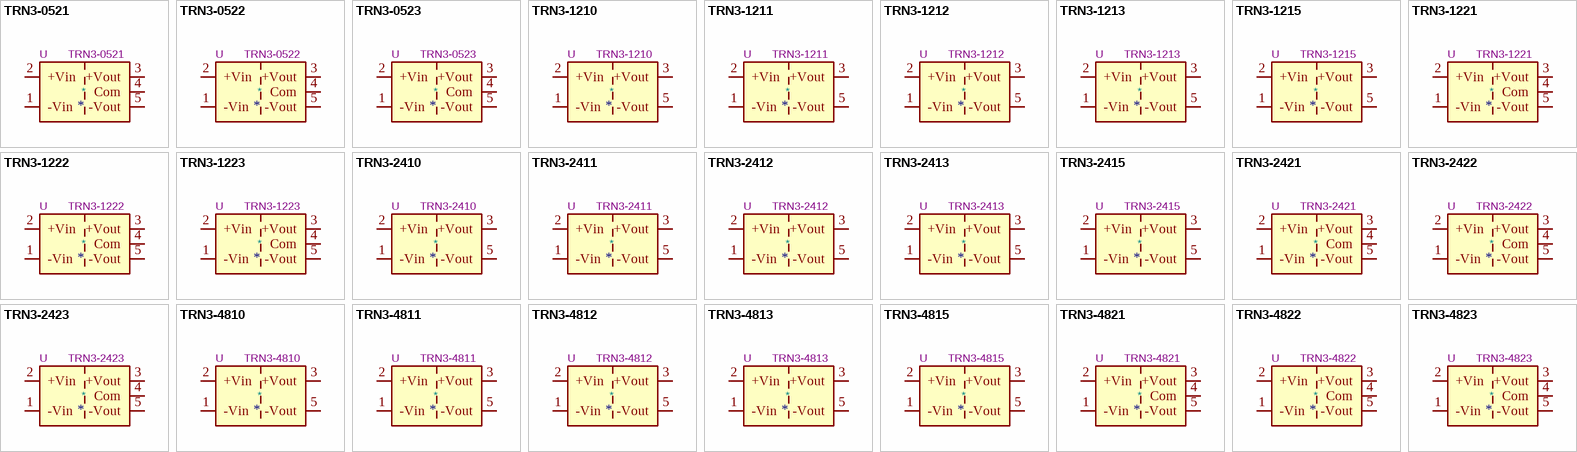
[diagram p23: symbols TRN3-0521 to TRN3-4823]

## TRN3-0521
designator *  value TRN3-0521  Reference: U
3W DC/DC converter regulated, 4.5-13.2V input, ±5V fixed output voltage, 300mA each output, 1.6kVDC isolation, SIP-5; ki_keywords: Traco isolated dual; ki_fp_filters: Converter*DCDC*TRACO*TRN3*xx2x*Dual*THT*; Footprint: Converter_DCDC:Converter_DCDC_TRACO_TRN3-xx2x_Dual_THT; Datasheet: https://www.tracopower.com/products/trn3.pdf; Description_: 3W DC/DC converter regulated, 4.5-13.2V input, ±5V fixed output voltage, 300mA each output, 1.6kVDC isolation, SIP-5
pins: 1 -Vin, 2 +Vin, 3 +Vout, 4 Com, 5 -Vout

## TRN3-0522
designator *  value TRN3-0522  Reference: U
3W DC/DC converter regulated, 4.5-13.2V input, ±12V fixed output voltage, 125mA each output, 1.6kVDC isolation, SIP-5; ki_keywords: Traco isolated dual; ki_fp_filters: Converter*DCDC*TRACO*TRN3*xx2x*Dual*THT*; Footprint: Converter_DCDC:Converter_DCDC_TRACO_TRN3-xx2x_Dual_THT; Datasheet: https://www.tracopower.com/products/trn3.pdf; Description_: 3W DC/DC converter regulated, 4.5-13.2V input, ±12V fixed output voltage, 125mA each output, 1.6kVDC isolation, SIP-5
pins: 1 -Vin, 2 +Vin, 3 +Vout, 4 Com, 5 -Vout

## TRN3-0523
designator *  value TRN3-0523  Reference: U
3W DC/DC converter regulated, 4.5-13.2V input, ±15V fixed output voltage, 100mA each output, 1.6kVDC isolation, SIP-5; ki_keywords: Traco isolated dual; ki_fp_filters: Converter*DCDC*TRACO*TRN3*xx2x*Dual*THT*; Footprint: Converter_DCDC:Converter_DCDC_TRACO_TRN3-xx2x_Dual_THT; Datasheet: https://www.tracopower.com/products/trn3.pdf; Description_: 3W DC/DC converter regulated, 4.5-13.2V input, ±15V fixed output voltage, 100mA each output, 1.6kVDC isolation, SIP-5
pins: 1 -Vin, 2 +Vin, 3 +Vout, 4 Com, 5 -Vout

## TRN3-1210
designator *  value TRN3-1210  Reference: U
3W DC/DC converter regulated, 9-18V input, 3.3V fixed output voltage, 700mA output, 1.6kVDC isolation, SIP-5; ki_keywords: Traco isolated single; ki_fp_filters: Converter*DCDC*TRACO*TRN3*xx1x*Single*THT*; Footprint: Converter_DCDC:Converter_DCDC_TRACO_TRN3-xx1x_Single_THT; Datasheet: https://www.tracopower.com/products/trn3.pdf; Description_: 3W DC/DC converter regulated, 9-18V input, 3.3V fixed output voltage, 700mA output, 1.6kVDC isolation, SIP-5
pins: 1 -Vin, 2 +Vin, 3 +Vout, 5 -Vout

## TRN3-1211
designator *  value TRN3-1211  Reference: U
3W DC/DC converter regulated, 9-18V input, 5V fixed output voltage, 600mA output, 1.6kVDC isolation, SIP-5; ki_keywords: Traco isolated single; ki_fp_filters: Converter*DCDC*TRACO*TRN3*xx1x*Single*THT*; Footprint: Converter_DCDC:Converter_DCDC_TRACO_TRN3-xx1x_Single_THT; Datasheet: https://www.tracopower.com/products/trn3.pdf; Description_: 3W DC/DC converter regulated, 9-18V input, 5V fixed output voltage, 600mA output, 1.6kVDC isolation, SIP-5
pins: 1 -Vin, 2 +Vin, 3 +Vout, 5 -Vout

## TRN3-1212
designator *  value TRN3-1212  Reference: U
3W DC/DC converter regulated, 9-18V input, 12V fixed output voltage, 250mA output, 1.6kVDC isolation, SIP-5; ki_keywords: Traco isolated single; ki_fp_filters: Converter*DCDC*TRACO*TRN3*xx1x*Single*THT*; Footprint: Converter_DCDC:Converter_DCDC_TRACO_TRN3-xx1x_Single_THT; Datasheet: https://www.tracopower.com/products/trn3.pdf; Description_: 3W DC/DC converter regulated, 9-18V input, 12V fixed output voltage, 250mA output, 1.6kVDC isolation, SIP-5
pins: 1 -Vin, 2 +Vin, 3 +Vout, 5 -Vout

## TRN3-1213
designator *  value TRN3-1213  Reference: U
3W DC/DC converter regulated, 9-18V input, 15V fixed output voltage, 200mA output, 1.6kVDC isolation, SIP-5; ki_keywords: Traco isolated single; ki_fp_filters: Converter*DCDC*TRACO*TRN3*xx1x*Single*THT*; Footprint: Converter_DCDC:Converter_DCDC_TRACO_TRN3-xx1x_Single_THT; Datasheet: https://www.tracopower.com/products/trn3.pdf; Description_: 3W DC/DC converter regulated, 9-18V input, 15V fixed output voltage, 200mA output, 1.6kVDC isolation, SIP-5
pins: 1 -Vin, 2 +Vin, 3 +Vout, 5 -Vout

## TRN3-1215
designator *  value TRN3-1215  Reference: U
3W DC/DC converter regulated, 9-18V input, 24V fixed output voltage, 125mA output, 1.6kVDC isolation, SIP-5; ki_keywords: Traco isolated single; ki_fp_filters: Converter*DCDC*TRACO*TRN3*xx1x*Single*THT*; Footprint: Converter_DCDC:Converter_DCDC_TRACO_TRN3-xx1x_Single_THT; Datasheet: https://www.tracopower.com/products/trn3.pdf; Description_: 3W DC/DC converter regulated, 9-18V input, 24V fixed output voltage, 125mA output, 1.6kVDC isolation, SIP-5
pins: 1 -Vin, 2 +Vin, 3 +Vout, 5 -Vout

## TRN3-1221
designator *  value TRN3-1221  Reference: U
3W DC/DC converter regulated, 9-18V input, ±5V fixed output voltage, 300mA each output, 1.6kVDC isolation, SIP-5; ki_keywords: Traco isolated dual; ki_fp_filters: Converter*DCDC*TRACO*TRN3*xx2x*Dual*THT*; Footprint: Converter_DCDC:Converter_DCDC_TRACO_TRN3-xx2x_Dual_THT; Datasheet: https://www.tracopower.com/products/trn3.pdf; Description_: 3W DC/DC converter regulated, 9-18V input, ±5V fixed output voltage, 300mA each output, 1.6kVDC isolation, SIP-5
pins: 1 -Vin, 2 +Vin, 3 +Vout, 4 Com, 5 -Vout

## TRN3-1222
designator *  value TRN3-1222  Reference: U
3W DC/DC converter regulated, 9-18V input, ±12V fixed output voltage, 125mA each output, 1.6kVDC isolation, SIP-5; ki_keywords: Traco isolated dual; ki_fp_filters: Converter*DCDC*TRACO*TRN3*xx2x*Dual*THT*; Footprint: Converter_DCDC:Converter_DCDC_TRACO_TRN3-xx2x_Dual_THT; Datasheet: https://www.tracopower.com/products/trn3.pdf; Description_: 3W DC/DC converter regulated, 9-18V input, ±12V fixed output voltage, 125mA each output, 1.6kVDC isolation, SIP-5
pins: 1 -Vin, 2 +Vin, 3 +Vout, 4 Com, 5 -Vout

## TRN3-1223
designator *  value TRN3-1223  Reference: U
3W DC/DC converter regulated, 9-18V input, ±15V fixed output voltage, 100mA each output, 1.6kVDC isolation, SIP-5; ki_keywords: Traco isolated dual; ki_fp_filters: Converter*DCDC*TRACO*TRN3*xx2x*Dual*THT*; Footprint: Converter_DCDC:Converter_DCDC_TRACO_TRN3-xx2x_Dual_THT; Datasheet: https://www.tracopower.com/products/trn3.pdf; Description_: 3W DC/DC converter regulated, 9-18V input, ±15V fixed output voltage, 100mA each output, 1.6kVDC isolation, SIP-5
pins: 1 -Vin, 2 +Vin, 3 +Vout, 4 Com, 5 -Vout

## TRN3-2410
designator *  value TRN3-2410  Reference: U
3W DC/DC converter regulated, 18-36V input, 3.3V fixed output voltage, 700mA output, 1.6kVDC isolation, SIP-5; ki_keywords: Traco isolated single; ki_fp_filters: Converter*DCDC*TRACO*TRN3*xx1x*Single*THT*; Footprint: Converter_DCDC:Converter_DCDC_TRACO_TRN3-xx1x_Single_THT; Datasheet: https://www.tracopower.com/products/trn3.pdf; Description_: 3W DC/DC converter regulated, 18-36V input, 3.3V fixed output voltage, 700mA output, 1.6kVDC isolation, SIP-5
pins: 1 -Vin, 2 +Vin, 3 +Vout, 5 -Vout

## TRN3-2411
designator *  value TRN3-2411  Reference: U
3W DC/DC converter regulated, 18-36V input, 5V fixed output voltage, 600mA output, 1.6kVDC isolation, SIP-5; ki_keywords: Traco isolated single; ki_fp_filters: Converter*DCDC*TRACO*TRN3*xx1x*Single*THT*; Footprint: Converter_DCDC:Converter_DCDC_TRACO_TRN3-xx1x_Single_THT; Datasheet: https://www.tracopower.com/products/trn3.pdf; Description_: 3W DC/DC converter regulated, 18-36V input, 5V fixed output voltage, 600mA output, 1.6kVDC isolation, SIP-5
pins: 1 -Vin, 2 +Vin, 3 +Vout, 5 -Vout

## TRN3-2412
designator *  value TRN3-2412  Reference: U
3W DC/DC converter regulated, 18-36V input, 12V fixed output voltage, 250mA output, 1.6kVDC isolation, SIP-5; ki_keywords: Traco isolated single; ki_fp_filters: Converter*DCDC*TRACO*TRN3*xx1x*Single*THT*; Footprint: Converter_DCDC:Converter_DCDC_TRACO_TRN3-xx1x_Single_THT; Datasheet: https://www.tracopower.com/products/trn3.pdf; Description_: 3W DC/DC converter regulated, 18-36V input, 12V fixed output voltage, 250mA output, 1.6kVDC isolation, SIP-5
pins: 1 -Vin, 2 +Vin, 3 +Vout, 5 -Vout

## TRN3-2413
designator *  value TRN3-2413  Reference: U
3W DC/DC converter regulated, 18-36V input, 15V fixed output voltage, 200mA output, 1.6kVDC isolation, SIP-5; ki_keywords: Traco isolated single; ki_fp_filters: Converter*DCDC*TRACO*TRN3*xx1x*Single*THT*; Footprint: Converter_DCDC:Converter_DCDC_TRACO_TRN3-xx1x_Single_THT; Datasheet: https://www.tracopower.com/products/trn3.pdf; Description_: 3W DC/DC converter regulated, 18-36V input, 15V fixed output voltage, 200mA output, 1.6kVDC isolation, SIP-5
pins: 1 -Vin, 2 +Vin, 3 +Vout, 5 -Vout

## TRN3-2415
designator *  value TRN3-2415  Reference: U
3W DC/DC converter regulated, 18-36V input, 24V fixed output voltage, 125mA output, 1.6kVDC isolation, SIP-5; ki_keywords: Traco isolated single; ki_fp_filters: Converter*DCDC*TRACO*TRN3*xx1x*Single*THT*; Footprint: Converter_DCDC:Converter_DCDC_TRACO_TRN3-xx1x_Single_THT; Datasheet: https://www.tracopower.com/products/trn3.pdf; Description_: 3W DC/DC converter regulated, 18-36V input, 24V fixed output voltage, 125mA output, 1.6kVDC isolation, SIP-5
pins: 1 -Vin, 2 +Vin, 3 +Vout, 5 -Vout